# EAGLE library part TX2_RELAY (library Relay)
TX2-Relay, 5 und 12 V, 2 Umschalter
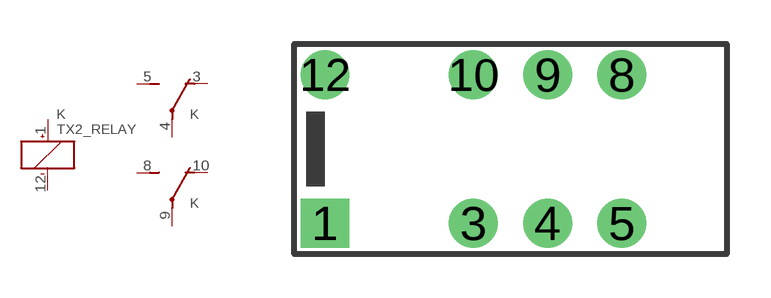
[diagram p1: symbol with the pads of TX2; footprint TX2]

Designator prefix K; gates TX2_COIL=TX2_SPULE TX2_SWITCH=TX2_SCHALTER TX2_SWITCH2=TX2_SCHALTER

## TX2_RELAY"  [TX2]
1  TX2_COIL:+  pas
3  TX2_SWITCH:O  pas
4  TX2_SWITCH:P  pas
5  TX2_SWITCH:S  pas
8  TX2_SWITCH2:S  pas
9  TX2_SWITCH2:P  pas
10  TX2_SWITCH2:O  pas
12  TX2_COIL:-  pas

## Footprint TX2 (pad centres in mm)
drill 0.8 pad 1.676 square: 1 -6.35,-2.54
drill 0.8 pad 1.676: 3 -1.27,-2.54; 4 1.27,-2.54; 5 3.81,-2.54; 8 3.81,2.54; 9 1.27,2.54; 10 -1.27,2.54; 12 -6.35,2.54